# EAGLE library part KH-TYPE-C-16P_KH-TYPE-C-16P (library InkTime_v5)
Check availability <https://pricing.snapeda.com/parts/KH-TYPE-C-16P/kinghelm/view-part?ref=eda>
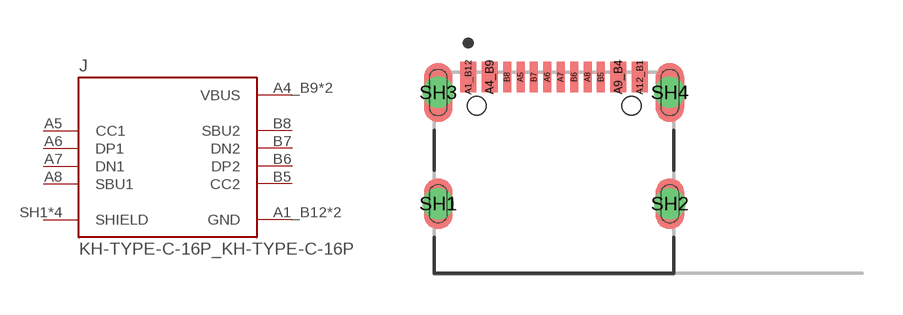
[diagram p5: symbol with the pads of KH-TYPE-C-16P_KINGHELM_KH-TYPE-C-16P; footprint KH-TYPE-C-16P_KINGHELM_KH-TYPE-C-16P]

Designator prefix J

## KH-TYPE-C-16P_KH-TYPE-C-16P  [KH-TYPE-C-16P_KINGHELM_KH-TYPE-C-16P]
A1_B12  GND  pwr
A4_B9  VBUS  pwr
A5  CC1
A6  DP1
A7  DN1
A8  SBU1
A9_B4  VBUS  pwr
A12_B1  GND  pwr
B5  CC2
B6  DP2
B7  DN2
B8  SBU2
SH1  SHIELD  pas
SH2  SHIELD  pas
SH3  SHIELD  pas
SH4  SHIELD  pas

## Footprint KH-TYPE-C-16P_KINGHELM_KH-TYPE-C-16P (pad centres in mm)
smd 0.6 x 1.15: A1_B12 -3.2,4.725; A4_B9 -2.4,4.725; A9_B4 2.4,4.725; A12_B1 3.2,4.725
smd 0.3 x 1.15: A5 -1.25,4.725; A6 -0.25,4.725; A7 0.25,4.725; A8 1.25,4.725; B5 1.75,4.725; B6 0.75,4.725; B7 -0.75,4.725; B8 -1.75,4.725
drill 0.65 pad 1.05: SH1 -4.32,0; SH2 4.32,0; SH3 -4.32,4.15; SH4 4.32,4.15
hole 0.7 at -2.89,3.65
hole 0.7 at 2.89,3.65